# Altium schematic symbol library AD835AR.SchLib: 1 symbol
Pins are listed as number, name and electrical type; pins without a type are passive.

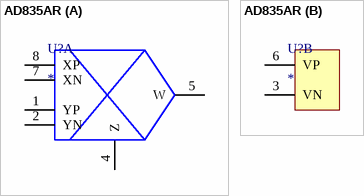
[diagram p0: symbol AD835AR]

## AD835AR
designator U?
250 MHz, Voltage Output, 4-Quadrant Multiplier; Manufacturer_Part_Number: AD835AR; Vendor: Vendor; RefDes: RefDes; Type: DEV; Value: Value
footprint R_8
footprint R_8-L
footprint R_8-M
part A pins: 1 YP, 2 YN, 4 Z, 5 W, 7 XN, 8 XP
part B pins: 3 VN (power), 6 VP (power)